# Altium schematic symbol library SCH - BUZZER - Buzzer 2 pin.SCHLIB: 1 symbol
Pins are listed as number, name and electrical type; pins without a type are passive.

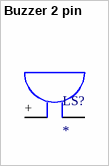
[diagram p0: symbol Buzzer 2 pin]

## Buzzer 2 pin
designator LS?
pins: +, -